# Altium footprint library I6A4W020A033V-001-R.PCBLIB: 1 footprints
Each footprint in its own frame and in the unit in brackets; x right, y up, seen from the top. Pads: shape width x height; smd on the part's side, far side on the other; paste and mask are expansions set on the pad; w line width, h text height; cw(c..) or ccw(c..) is an arc to the next point about the centre after c.
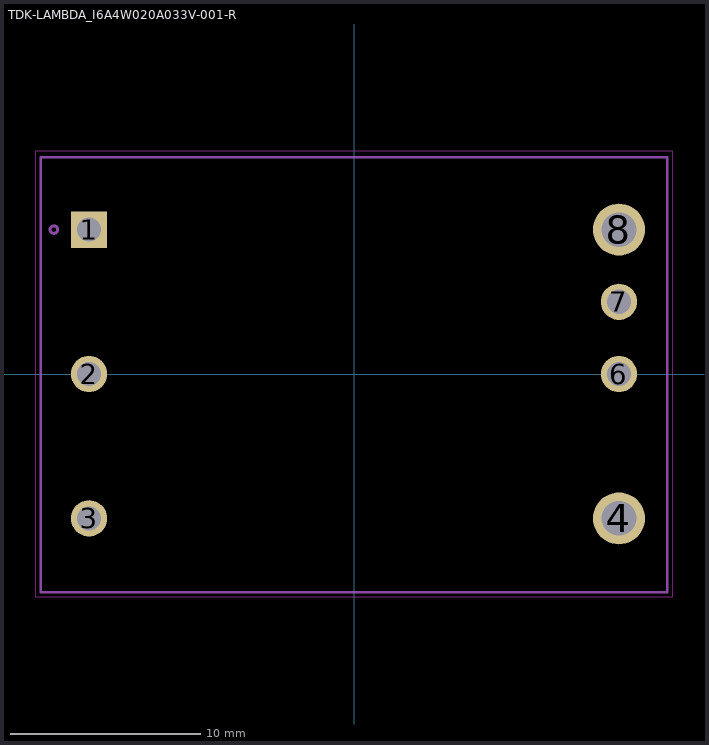
[diagram p0: the footprint, top view; thin cyan lines are the x and y axes]

## TDK-LAMBDA_I6A4W020A033V-001-R [mm]
pads (7):
  rect 1.911x1.911 / inner round 1.766 / far side rect 1.911x1.911 hole 1.274: 1(-13.95,7.6)
  round 1.911 hole 1.274: 2(-13.95,0) 3(-13.95,-7.6) 6(13.95,0) 7(13.95,3.8)
  round 2.736 hole 1.824: 4(13.95,-7.6) 8(13.95,7.6)
Top keep-out:
  lines w0.05: -16.75,-11.75 16.75,-11.75 16.75,11.75 -16.75,11.75 -16.75,-11.75
tPlace:
  circle w0.152: c-15.8,7.6 r0.2
  lines w0.127: -16.5,-11.5 16.5,-11.5 16.5,11.4 -16.5,11.4 -16.5,-11.5